# Altium footprint library BQ25185DLHR.PcbLib: 1 footprints
Each footprint in its own frame and in the unit in brackets; x right, y up, seen from the top. Pads: shape width x height; smd on the part's side, far side on the other; paste and mask are expansions set on the pad; w line width, h text height; cw(c..) or ccw(c..) is an arc to the next point about the centre after c.
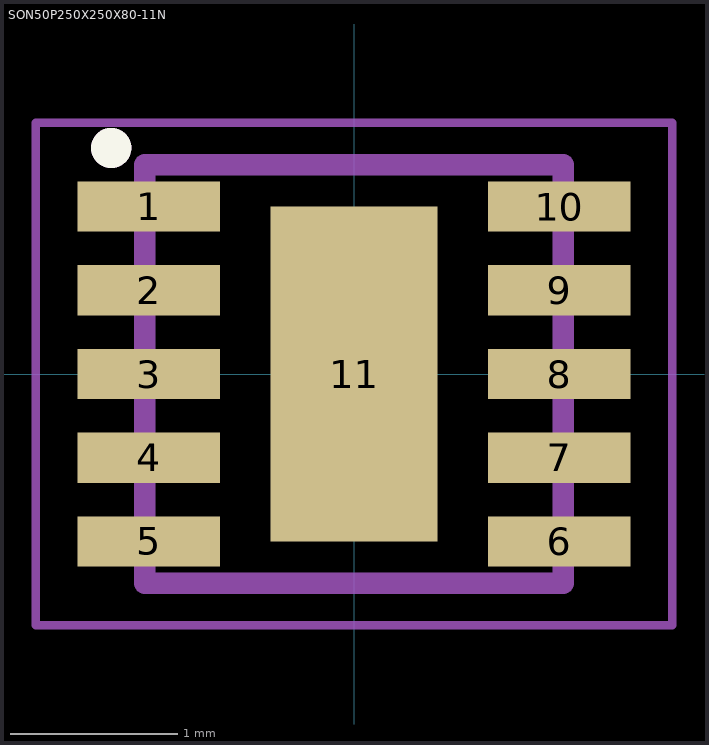
[diagram p0: the footprint, top view; thin cyan lines are the x and y axes]

## SON50P250X250X80-11N [mm]
pads (11):
  rect 0.85x0.3 smd mask+0.05: 1(-1.225,1) 2(-1.225,0.5) 3(-1.225,0) 4(-1.225,-0.5) 5(-1.225,-1) 6(1.225,-1) 7(1.225,-0.5) 8(1.225,0) 9(1.225,0.5) 10(1.225,1)
  rect 1x2 smd paste-2 mask+0.05: 11(0,0)
Top Overlay:
  circle w0.2: c-1.45,1.35 r0.02
Top Paste:
  region: 0.379,-0.632 -0.379,-0.632 -0.379,0.632 0.379,0.632
Assembly Top:
  circle w0.2: c-1.45,1.35 r0.02
  lines w0.127: -1.25,-1.25 -1.25,1.25 1.25,1.25 1.25,-1.25 -1.25,-1.25
Courtyard Top:
  lines w0.05: -1.9,-1.5 1.9,-1.5 1.9,1.5 -1.9,1.5 -1.9,-1.5
3D body "step_temp.STEP": height 0.8, standoff 0, extent -1,-1.1 1,1.1